# Altium schematic symbol library Holberton_V1.SCHLIB: 125 symbols (part 1 of 2)
Pins are listed as number, name and electrical type; pins without a type are passive.

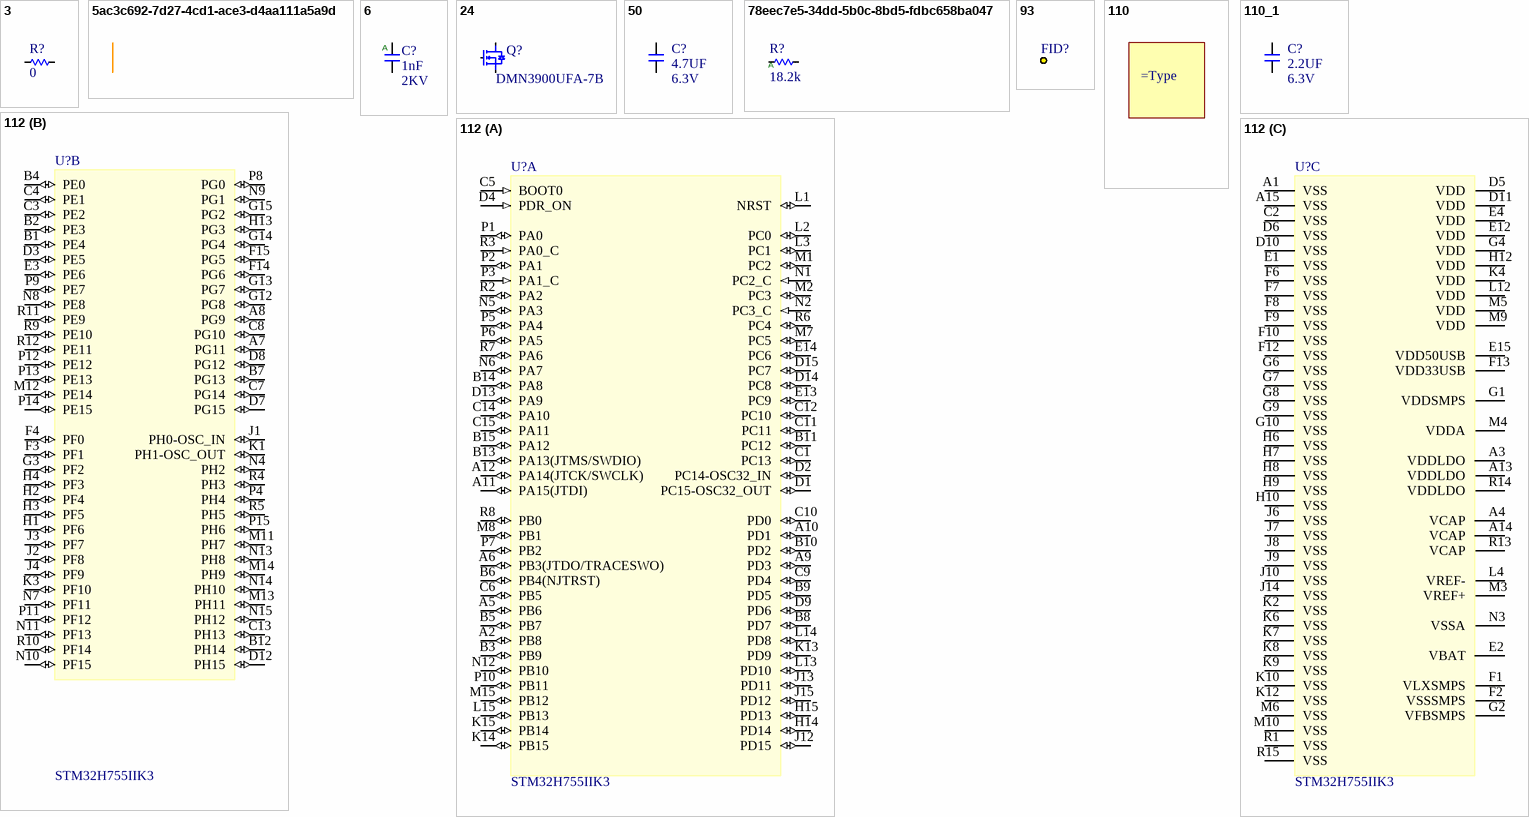
[diagram p0: symbols 3 to 112]

## 3
designator R?, comment 0
RES, 0, JUMPER, 1/16W, 0402; MFG: YAGEO; MFG P/N: RC0402FR-070RL; COMMON: 470-02332-00; Status: NRND; Package: 0402; Value: 0; Supplier 1: Digi-Key; ComponentLink1URL: https://www.digikey.com/en/products/detail/yageo/RC0402FR-070RL/2827570; Supplier Part Number 1: 311-0.0LRCT-ND
footprint R0603 (Chip Resistor, 2-Leads, Body 1.6x0.8mm, IPC High Density)
footprint R0402
pins: 1, 2

## 5ac3c692-7d27-4cd1-ace3-d4aa111a5a9d
designator NT?, comment Mechanical Feature NET_TIE_10MIL  (value not drawn)  (net tie, no BOM)
Net Tie, 10mil trace; Package: Net Tie, 10mil trace; Status: Preliminary
footprint NETTIE_10MIL (Net Tie 10 mils x 50 mils)
pins: 1, 2

## 6
designator C?, comment value 1nF  Voltage: 2KV  (hidden comment: __Template_Cap_Auto)
CAP, CER, X7S, 1000PF, 2KV, 10%, 1210; MFG: TDK; MFG P/N: CGA6M1X7S3D102K200AA; COMMON: 150-01098-00; Status: Released; Package: 1210; Supplier 1: Digi-Key; ComponentLink1URL: https://www.digikey.com/en/products/detail/tdk-corporation/CGA6M1X7S3D102K200AA/3950274; Supplier Part Number 1: 445-13038-1-ND
footprint C1210
pins: 1, 2
text: A

## 24
designator Q?, comment MFG P/N: DMN3900UFA-7B  (hidden comment: NFET_DMN3900UFA)
MOSFET, N-CH, 30V, 0.55A, DMN3900; MFG: Diodes Incorporated; COMMON: 480-00750-00; Value: DMN3900UFA-7B; Status: Released; Package: 3-XFDFN; ComponentLink1URL: http://www.diodes.com/datasheets/DMN3900UFA.pdf; Supplier 1: Digi-Key; Supplier Part Number 1: DMN3900UFA-7BCT-ND
footprint 3XDFN (DFN, 3-Leads, Body 0.80x0.60mm, Pitch 0.65mm, IPC Medium Density)
pins: 1 G, 2 S, 3 D

## 50
designator C?, comment value 4.7UF  Voltage: 6.3V  (hidden comment: __Template_Cap)
CAP, CER, X5R, 4.7uF, 20%, 6.3V, 0402, 0.65mm; MFG: TDK; MFG P/N: C1005X5R0J475M050BC; COMMON: 150-00023-00; Status: Released; Package: 0402; Supplier 1: Digi-Key; ComponentLink1URL: https://www.digikey.com/en/products/detail/tdk-corporation/C1005X5R0J475M050BC/2732830; Supplier Part Number 1: 445-7395-1-ND
footprint C0402 (Chip Capacitor, 2-Leads, Body 1.0x0.5mm, IPC High Density)
pins: 1, 2

## 78eec7e5-34dd-5b0c-8bd5-fdbc658ba047
designator R?, comment value 18.2k  (hidden comment: PANASONIC ERJ2RKF1822X)
Res, 18.2k, +/-1%, 0.1W, 0402, AUTO GRADE; MFG: Panasonic Electronic Components; MFG P/N: ERJ-2RKF1822X; Package: 0402; ComponentLink1URL: http://industrial.panasonic.com/cdbs/www-data/pdf/RDA0000/AOA0000C304.pdf; Status: Preliminary; Supplier 1: Digi-Key; Supplier Part Number 1: P18.2KLCT-ND
footprint RESC100X50X40L25 (Chip Resistor, 2-Leads, Body 1.00x0.50mm, IPC Medium Density)
footprint R0402
pins: 1, 2
text: A

## 93
designator FID?, comment FIDUCIAL  (value not drawn)  (no BOM)
FIDUCIAL 1MM COPPER CIRCLE 3MM MASK PULLBACK; MFG: _PCB Feature; Status: In Development; Value: FIDUCIAL
footprint FIDUCIAL_1MM (FIDUCIAL 1MM COPPER CIRCLE 3MM MASK PULLBACK)

## 110
designator ?  (mechanical)
PCB; Status: In Development; MFG P/N: =PCBPN

## 110_1
designator C?, comment value 2.2UF  Voltage: 6.3V  (hidden comment: __Template_Cap)
CAP, CER, X5R, 2.2uF, 6.3V, 20%, 0201, 0.39mm T; MFG: SAMSUNG; MFG P/N: CL03A225MQ3CRNC; COMMON: 150-00421-00; Status: Released; Package: 0201; Supplier 1: Digi-Key; ComponentLink1URL: https://www.digikey.com/en/products/detail/samsung-electro-mechanics/CL03A225MQ3CRNC/5961354; Supplier Part Number 1: 1276-6870-1-ND
footprint C0201 (Chip Capacitor, 2-Leads, Body 0.6x0.3mm, IPC High Density)
pins: 1, 2

## 112
designator U?, comment MFG P/N: STM32H755IIK3  (hidden comment: MCU_STM32H755IIK3)
IC, MCU, STM32H755xI, ARM, 32-BIT, 240MHZ, 128 I/O, 2MB, FLASH, 1.62V TO 3.6V, UFBGA-201; MFG: STMicroelectronics; Value: BGS201C65P15X15_1000X1000X60; Status: Released; Package: 176+25UFBGA (10x10); Supplier 1: Digi-Key; ComponentLink1URL: https://www.st.com/resource/en/datasheet/stm32h755ii.pdf; Supplier Part Number 1: 497-STM32H755IIK3-ND
footprint BGS201C65P15X15_1000X1000X60
part A pins: A2 PB8 (io), A5 PB6 (io), A6 PB3(JTDO/TRACESWO) (io), A9 PD3 (io), A10 PD1 (io), A11 PA15(JTDI) (io), A12 PA14(JTCK/SWCLK) (io), B3 PB9 (io), B5 PB7 (io), B6 PB4(NJTRST) (io), B8 PD7 (io), B9 PD5 (io), B10 PD2 (io), B11 PC12 (io), B13 PA13(JTMS/SWDIO) (io), B14 PA8 (io), B15 PA12 (io), C1 PC13 (io), C5 BOOT0 (in), C6 PB5 (io), C9 PD4 (io), C10 PD0 (io), C11 PC11 (io), C12 PC10 (io), C14 PA10 (io), C15 PA11 (io), D1 PC15-OSC32_OUT (io), D2 PC14-OSC32_IN (io), D4 PDR_ON (in), D9 PD6 (io), D13 PA9 (io), D14 PC8 (io), D15 PC7 (io), E13 PC9 (io), E14 PC6 (io), H14 PD14 (io), H15 PD13 (io), J12 PD15 (io), J13 PD11 (io), J15 PD12 (io), K13 PD9 (io), K14 PB15 (io), K15 PB14 (io), L1 NRST (io), L2 PC0 (io), L3 PC1 (io), L13 PD10 (io), L14 PD8 (io), L15 PB13 (io), M1 PC2 (io), M2 PC3 (io), M7 PC5 (io), M8 PB1 (io), M15 PB12 (io), N1 PC2_C (in), N2 PC3_C (in), N5 PA3 (io), N6 PA7 (io), N12 PB10 (io), P1 PA0 (io), P2 PA1 (io), P3 PA1_C (in), P5 PA4 (io), P6 PA5 (io), P7 PB2 (io), P10 PB11 (io), R2 PA2 (io), R3 PA0_C (in), R6 PC4 (io), R7 PA6 (io), R8 PB0 (io)
part B pins: A7 PG11 (io), A8 PG9 (io), B1 PE4 (io), B2 PE3 (io), B4 PE0 (io), B7 PG13 (io), B12 PH14 (io), C3 PE2 (io), C4 PE1 (io), C7 PG14 (io), C8 PG10 (io), C13 PH13 (io), D3 PE5 (io), D7 PG15 (io), D8 PG12 (io), D12 PH15 (io), E3 PE6 (io), F3 PF1 (io), F4 PF0 (io), F14 PG6 (io), F15 PG5 (io), G3 PF2 (io), G12 PG8 (io), G13 PG7 (io), G14 PG4 (io), G15 PG2 (io), H1 PF6 (io), H2 PF4 (io), H3 PF5 (io), H4 PF3 (io), H13 PG3 (io), J1 PH0-OSC_IN (io), J2 PF8 (io), J3 PF7 (io), J4 PF9 (io), K1 PH1-OSC_OUT (io), K3 PF10 (io), M11 PH7 (io), M12 PE14 (io), M13 PH11 (io), M14 PH9 (io), N4 PH2 (io), N7 PF11 (io), N8 PE8 (io), N9 PG1 (io), N10 PF15 (io), N11 PF13 (io), N13 PH8 (io), N14 PH10 (io), N15 PH12 (io), P4 PH4 (io), P8 PG0 (io), P9 PE7 (io), P11 PF12 (io), P12 PE12 (io), P13 PE13 (io), P14 PE15 (io), P15 PH6 (io), R4 PH3 (io), R5 PH5 (io), R9 PE10 (io), R10 PF14 (io), R11 PE9 (io), R12 PE11 (io)
part C pins: A1 VSS (power), A3 VDDLDO (power), A4 VCAP (power), A13 VDDLDO (power), A14 VCAP (power), A15 VSS (power), C2 VSS (power), D5 VDD (power), D6 VSS (power), D10 VSS (power), D11 VDD (power), E1 VSS (power), E2 VBAT (power), E4 VDD (power), E12 VDD (power), E15 VDD50USB (power), F1 VLXSMPS (power), F2 VSSSMPS (power), F6 VSS (power), F7 VSS (power), F8 VSS (power), F9 VSS (power), F10 VSS (power), F12 VSS (power), F13 VDD33USB (power), G1 VDDSMPS (power), G2 VFBSMPS (power), G4 VDD (power), G6 VSS (power), G7 VSS (power), G8 VSS (power), G9 VSS (power), G10 VSS (power), H6 VSS (power), H7 VSS (power), H8 VSS (power), H9 VSS (power), H10 VSS (power), H12 VDD (power), J6 VSS (power), J7 VSS (power), J8 VSS (power), J9 VSS (power), J10 VSS (power), J14 VSS (power), K2 VSS (power), K4 VDD (power), K6 VSS (power), K7 VSS (power), K8 VSS (power), K9 VSS (power), K10 VSS (power), K12 VSS (power), L4 VREF- (power), L12 VDD (power), M3 VREF+ (power), M4 VDDA (power), M5 VDD (power), M6 VSS (power), M9 VDD (power), M10 VSS (power), N3 VSSA (power), R1 VSS (power), R13 VCAP (power), R14 VDDLDO (power), R15 VSS (power)

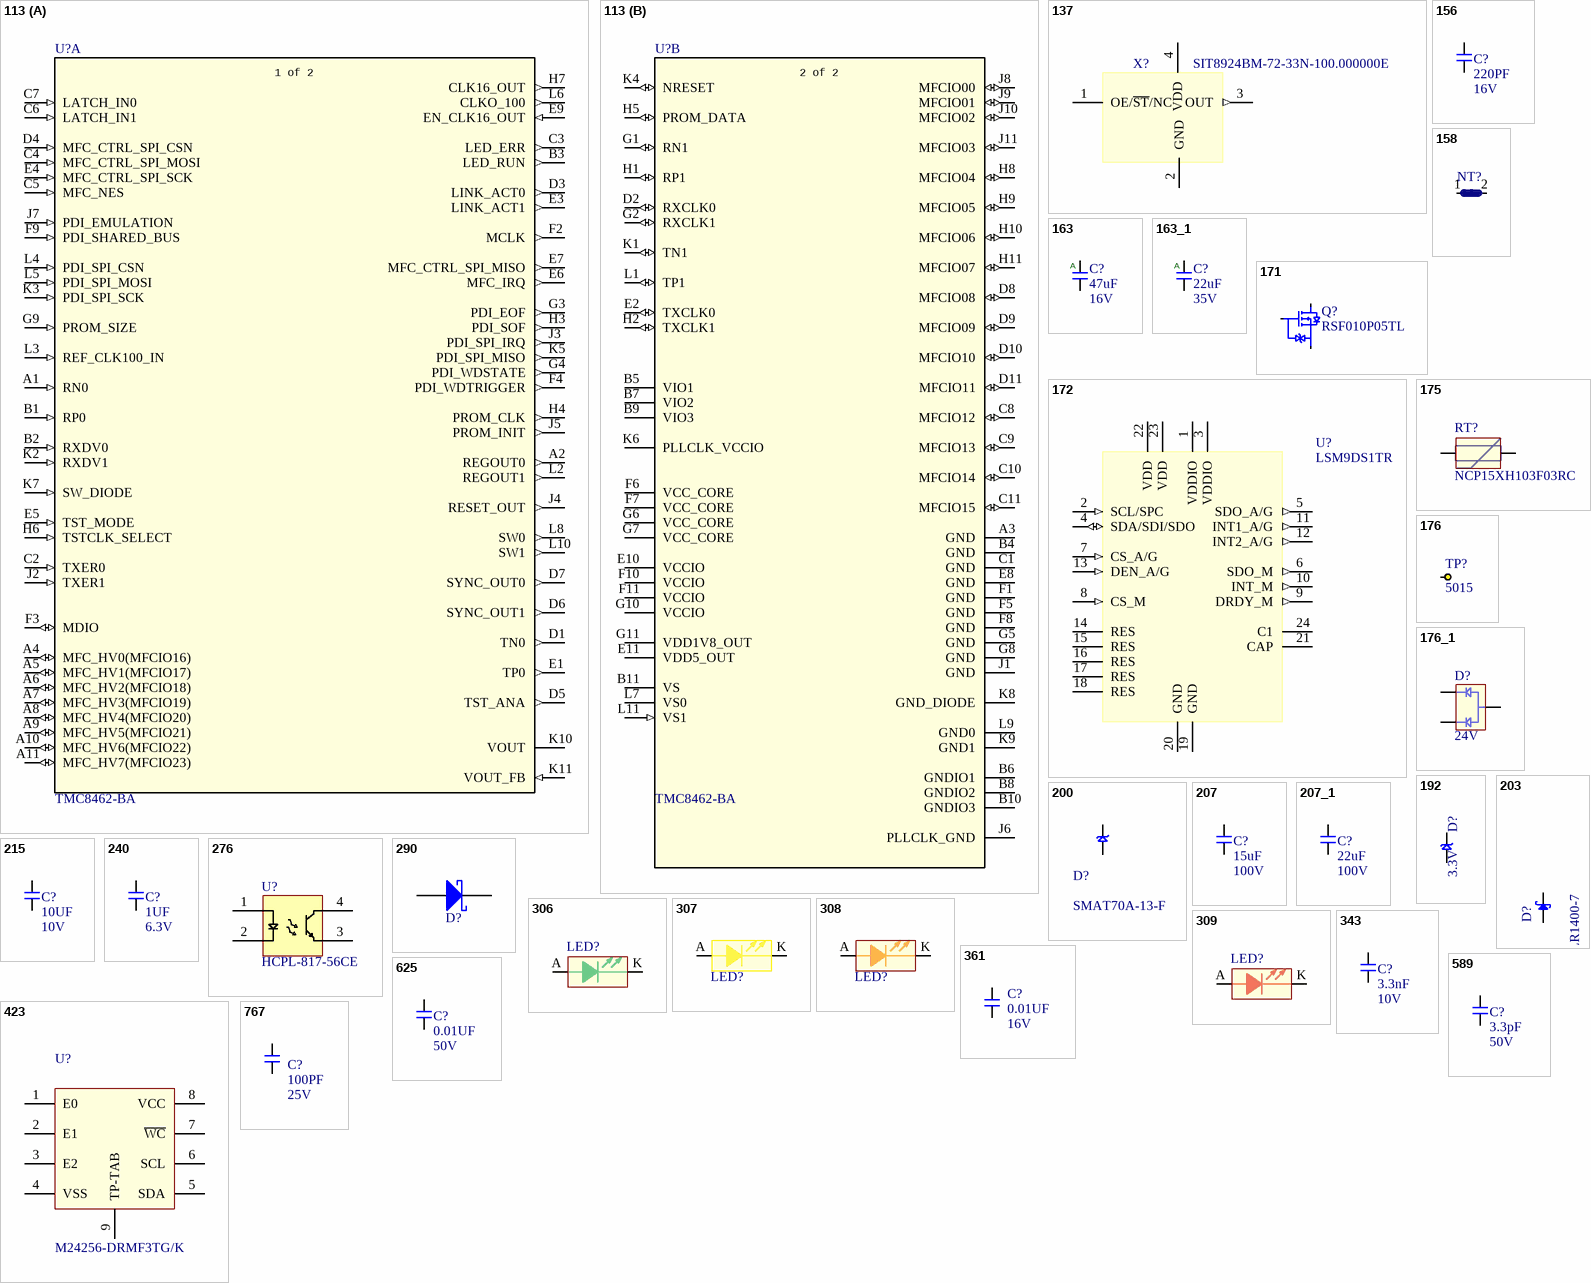
[diagram p1: symbols 113 to 767]

## 113
designator U?, comment MFG P/N: TMC8462-BA  (hidden comment: PROCESSOR_TRINAMIC_TMC8462-BA)
IC, CONTROLLER, TMC8462, ETHERNET, 100Mb, SPI, PWM O/P, 100mA, BGA-121; MFG: Trinamic Motion Control GmbH; Status: Released; Package: 121-BGA (9x9); Supplier 1: Digi-Key; ComponentLink1URL: https://www.trinamic.com/products/integrated-circuits/details/tmc8462-ba/; Supplier Part Number 1: 1460-1258-ND; Value: TMC8462-BA
footprint BGA121C75P11X11_900X900X145
part A pins: A1 RN0 (in), A2 REGOUT0 (out), A4 MFC_HV0(MFCIO16) (io), A5 MFC_HV1(MFCIO17) (io), A6 MFC_HV2(MFCIO18) (io), A7 MFC_HV3(MFCIO19) (io), A8 MFC_HV4(MFCIO20) (io), A9 MFC_HV5(MFCIO21) (io), A10 MFC_HV6(MFCIO22) (io), A11 MFC_HV7(MFCIO23) (io), B1 RP0 (in), B2 RXDV0 (in), B3 LED_RUN (out), C2 TXER0 (in), C3 LED_ERR (out), C4 MFC_CTRL_SPI_MOSI (in), C5 MFC_NES (in), C6 LATCH_IN1 (in), C7 LATCH_IN0 (in), D1 TN0 (out), D3 LINK_ACT0 (out), D4 MFC_CTRL_SPI_CSN (in), D5 TST_ANA (out), D6 SYNC_OUT1 (out), D7 SYNC_OUT0 (out), E1 TP0 (out), E3 LINK_ACT1 (out), E4 MFC_CTRL_SPI_SCK (in), E5 TST_MODE (in), E6 MFC_IRQ (out), E7 MFC_CTRL_SPI_MISO (out), E9 EN_CLK16_OUT (in), F2 MCLK (out), F3 MDIO (io), F4 PDI_WDTRIGGER (out), F9 PDI_SHARED_BUS (in), G3 PDI_EOF (out), G4 PDI_WDSTATE (out), G9 PROM_SIZE (in), H3 PDI_SOF (out), H4 PROM_CLK (out), H6 TSTCLK_SELECT (in), H7 CLK16_OUT (out), J2 TXER1 (in), J3 PDI_SPI_IRQ (out), J4 RESET_OUT (out), J5 PROM_INIT (out), J7 PDI_EMULATION (in), K2 RXDV1 (in), K3 PDI_SPI_SCK (in), K5 PDI_SPI_MISO (out), K7 SW_DIODE (in), K10 VOUT (power), K11 VOUT_FB (in), L2 REGOUT1 (out), L3 REF_CLK100_IN (in), L4 PDI_SPI_CSN (in), L5 PDI_SPI_MOSI (in), L6 CLKO_100 (out), L8 SW0 (out), L10 SW1 (out)
part B pins: A3 GND (power), B4 GND (power), B5 VIO1 (power), B6 GNDIO1 (power), B7 VIO2 (power), B8 GNDIO2 (power), B9 VIO3 (power), B10 GNDIO3 (power), B11 VS (power), C1 GND (power), C8 MFCIO12 (io), C9 MFCIO13 (io), C10 MFCIO14 (io), C11 MFCIO15 (io), D2 RXCLK0 (io), D8 MFCIO08 (io), D9 MFCIO09 (io), D10 MFCIO10 (io), D11 MFCIO11 (io), E2 TXCLK0 (io), E8 GND (power), E10 VCCIO (power), E11 VDD5_OUT (power), F1 GND (power), F5 GND (power), F6 VCC_CORE (power), F7 VCC_CORE (power), F8 GND (power), F10 VCCIO (power), F11 VCCIO (power), G1 RN1 (io), G2 RXCLK1 (io), G5 GND (power), G6 VCC_CORE (power), G7 VCC_CORE (power), G8 GND (power), G10 VCCIO (power), G11 VDD1V8_OUT (power), H1 RP1 (io), H2 TXCLK1 (io), H5 PROM_DATA (io), H8 MFCIO04 (io), H9 MFCIO05 (io), H10 MFCIO06 (io), H11 MFCIO07 (io), J1 GND (power), J6 PLLCLK_GND (power), J8 MFCIO00 (io), J9 MFCIO01 (io), J10 MFCIO02 (io), J11 MFCIO03 (io), K1 TN1 (io), K4 NRESET (io), K6 PLLCLK_VCCIO (power), K8 GND_DIODE (power), K9 GND1 (power), L1 TP1 (io), L7 VS0 (power), L9 GND0 (power), L11 VS1 (in)
part A text: 1 of 2
part B text: 2 of 2

## 137
designator X?, comment Mfg P/N: SIT8924BM-72-33N-100.000000E  (hidden comment: XTAL_SIT8924BM-72-33N-100.000000)
OSC, MEMS, XO, 100MHZ, +/-25PPM STAB, LVCMOS, 3.3V, SMD-4, AUTOGRADE; Mfg: SiTIME; Status: Released; Package: 4-SMD, No Lead; Supplier 1: Digi-Key; ComponentLink1URL: https://source.z2data.com/2019/9/26/1/9/50/497/69995916/SiT8924.pdf; Supplier Part Number 1: 1473-SIT8924BM-72-33N-100.000000E-ND; Value: 100MHZ
footprint XTAL_SIT8924BM-72-33N-100.000000
pins: 1 OE/~{ST}/NC, 2 GND (power), 3 OUT (out), 4 VDD (power)

## 156
designator C?, comment value 220PF  Voltage: 16V  (hidden comment: __Template_Cap)
CAP, CER, X7R, 220pF, 16V, 10%, 0201, 0.33mm T; MFG: MURATA; MFG P/N: GRM033R71C221KA01D; COMMON: 150-00794-00; Status: Released; Package: 0201; Supplier 1: Digi-Key; ComponentLink1URL: https://www.digikey.com/en/products/detail/murata-electronics/GRM033R71C221KA01D/2543508; Supplier Part Number 1: 490-6149-1-ND
footprint C0201Y
footprint C0201
pins: 1, 2

## 158
designator NT?, comment _Template_NETTIE  (value not drawn)  (net tie, no BOM)
Net Ties, 0402; MFG: _PCB Feature; Status: Released
footprint NETTIE_0402
pins: 1, 2

## 163
designator C?, comment value 47uF  Voltage: 16V  (hidden comment: __Template_Cap_Auto)
CAP, CER, X7R, 47uF, 16V, 20%, AUTO GRADE, 2220, 2.5mm T; MFG: TDK; MFG P/N: CGA9N3X7R1C476M230KB; COMMON: 150-00499-00; Status: Released; Package: 2220; Supplier 1: Digi-Key; ComponentLink1URL: https://www.digikey.com/en/products/detail/tdk-corporation/CGA9N3X7R1C476M230KB/2781361; Supplier Part Number 1: 445-7935-1-ND
footprint C2220 (Chip Capacitor, 2-Leads, Body 5.7x5.0mm, IPC High Density)
pins: 1, 2
text: A

## 163_1
designator C?, comment Voltage: 35V  (hidden comment: 22uF)
CAP CER 22UF 35V X5R 1206; MFG: TDK Corporation; MFG P/N: C3216X5R1V226M160AC; Status: Released; Package: 1206; Value: 22uF; Supplier 1: Digi-Key; ComponentLink1URL: https://www.digikey.com/en/products/detail/tdk-corporation/C3216X5R1V226M160AC/2792261?s=N4IgTCBcDaIMIGYwEYBsANArAJWQNTDFQFk0AGAQThAF0BfIA; Supplier Part Number 1: 445-8045-1-ND
footprint C1206 (Footprint not found)
pins: 1, 2
text: A

## 171
designator Q?, comment MFG P/N: RSF010P05TL  (hidden comment: PFET_RSF010P05TL)
MOSFET, PWR, P-CH, 45VDS, 1A ID, 460mOhm@ 1A, SMD-3; MFG: Rohm Semiconductor; Status: Released; Package: TUMT3; ComponentLink1URL: https://d1d2qsbl8m0m72.cloudfront.net/en/products/databook/datasheet/discrete/transistor/mosfet/rsf010p05tl-e.pdf; Supplier 1: Digi-Key; Supplier Part Number 1: RSF010P05TLCT-ND; Value: RSF010P05TL
footprint TUMT3
pins: D, G, S

## 172
designator U?, comment Mfg P/N: LSM9DS1TR  (hidden comment: SENSOR_ST_LSM9DS1TR)
SENSOR, MOTION, IMU, ACCELEROMETER/GYROSCOPE/MAGNETOMETER, I2C, SPI, LGA-24; Mfg: STMicroelectronics; Status: Released; Package: 24-LGA; Supplier 1: Digi-Key; ComponentLink1URL: https://www.st.com/content/ccc/resource/technical/document/datasheet/1e/3f/2a/d6/25/eb/48/46/DM00103319.pdf/files/DM00103319.pdf/jcr:content/translations/en.DM00103319.pdf; Supplier Part Number 1: 497-14946-1-ND; Value: LSM9DS1TR
footprint LGA24RX8X4_350X100X102
pins: 1 VDDIO (power), 2 SCL/SPC (in), 3 VDDIO (power), 4 SDA/SDI/SDO (io), 5 SDO_A/G (out), 6 SDO_M (out), 7 CS_A/G (in), 8 CS_M (in), 9 DRDY_M (out), 10 INT_M (out), 11 INT1_A/G (out), 12 INT2_A/G (out), 13 DEN_A/G (in), 14 RES (power), 15 RES (power), 16 RES (power), 17 RES (power), 18 RES (power), 19 GND (power), 20 GND (power), 21 CAP, 22 VDD (power), 23 VDD (power), 24 C1

## 175
designator RT?, comment Mfg P/N: NCP15XH103F03RC  (hidden comment: __Template_Thermistor)
SENSOR, THERMISTOR, NTC, 10K, 1%, 3380K, 100mW, 0402; Mfg: Murata Electronics; Value: 10KOHM; Status: Released; Package: 0402; Supplier 1: Digi-Key; ComponentLink1URL: https://www.murata.com/en-us/api/pdfdownloadapi?cate=&partno=NCP15XH103F03RC; Supplier Part Number 1: 490-4801-1-ND
footprint R0402_H0.55MM
footprint R0402
pins: 1, 2

## 176
designator TP?, comment MFG P/N: 5015  (hidden comment: TP_KEYSTONE_5015)
PC TEST POINT MINIATURE SMT; MFG: Keystone Electronics; COMMON: 250-00207-00; Value: 5015; Status: In Development; Supplier 1: Digi-Key; ComponentLink1URL: http://mail.keyelco.com/ENG._DEPT/PDF%20CAT%20NO%20Drawings/5015.pdf; Supplier Part Number 1: 36-5015CT-ND
footprint TP_KEYSTONE_5015
pins: 1

## 176_1
designator D?, comment 24V
DIODE, TVS, UNIDIR, DUAL, 24VRWM, 26VBR, 41VCL, SOT-23-3; MFG: Infineon Technologies; MFG P/N: ESD24VS2UE6327HTSA1; Value: ESD24VS2UE6327HTSA1; Status: Released; Package: TO-236-3, SC-59, SOT-23-3; Supplier 1: Digi-Key; ComponentLink1URL: https://www.infineon.com/dgdl/Infineon-ESD24VS2U-DS-v01_01-en.pdf?fileId=db3a3043340fff53013413a2249d2ff3; Supplier Part Number 1: ESD24VS2UE6327HTSA1CT-ND
footprint 3SOT23 (SOT23, 3-Leads, Body 3.0x2.6mm (max), Pitch 1.01mm, IPC High Density)
pins: 1, 2, 3

## 192
designator D?, comment 3.3V
TVS, DIODE, UNIDIR, 3.3VRWM, 4.8VBR, 7.8VCL, SOD-923; MFG: ON Semiconductor; MFG P/N: ESD9R3.3ST5G; Value: ESD9R3.3ST5G; Status: Released; Package: SOD-923; Supplier 1: Digi-Key; ComponentLink1URL: http://www.onsemi.com/pub/Collateral/ESD9R3.3S-D.PDF; Supplier Part Number 1: ESD9R3.3ST5GOSCT-ND
footprint SOD1060X40
pins: A, K

## 200
designator D?, comment value SMAT70A-13-F  (hidden comment: __Template_Diode_TVS_A/K)
DIODE, TVS, UNI-DIR, 70VR, 100VCL, 400W, 140PF @1MHZ, SMA; MFG: Diodes Incorporated; Status: Released; MFG P/N: SMAT70A-13-F; Package: SMA; Supplier 1: Digi-Key; ComponentLink1URL: https://www.diodes.com/assets/Datasheets/ds30213.pdf; Supplier Part Number 1: SMAT70A-FDICT-ND
footprint SMA_B130-13-F
pins: A, K

## 203
designator D?, comment value DFLR1400-7  (hidden comment: __Template_Diode_Schottky_A/K)
DIODE, SCHOTTKY, 100V, 1A, POWERDI123; MFG: Diodes Incorporated; Status: Released; MFG P/N: DFLR1400-7; Package: POWERDI®123; Supplier 1: Digi-Key; ComponentLink1URL: https://www.digikey.com/en/products/detail/diodes-incorporated/DFLR1400-7/776775; Supplier Part Number 1: DFLR1400DICT-ND
footprint POWERDI123_DFLS1100-7
pins: A, K

## 207
designator C?, comment value 15uF  Voltage: 100V  (hidden comment: __Template_Cap)
CAP, CER, X7S, 15uF, 100V, 20%, 2220, 2.8mm T; MFG: TDK; MFG P/N: CKG57KX7S2A156M335JH; Status: Released; Package: 2220; Supplier 1: Mouser; ComponentLink1URL: https://www.mouser.com/ProductDetail/TDK/CKG57KX7S2A156M335JH?qs=xLDY6iXSiQZjzyWjP57ZVA%3D%3D; Supplier Part Number 1: 810-CKG57KX7S2A156MH
footprint C2220 (Chip Capacitor, 2-Leads, Body 5.7x5.0mm, IPC High Density)
pins: 1, 2

## 207_1
designator C?, comment value 22uF  Voltage: 100V  (hidden comment: __Template_Cap)
CAP CER 22UF 100V X7S SMD (6.00mm x 5.00mm x 5.5mm); MFG: TDK; MFG P/N: CKG57NX7S2A226M500JJ; Status: Released; Supplier 1: Digi-Key; ComponentLink1URL: https://www.mouser.com/ProductDetail/TDK/CKG57KX7S2A156M335JH?qs=xLDY6iXSiQZjzyWjP57ZVA%3D%3D; Supplier Part Number 1: 445-10513-1-ND
footprint CAP_CKG57NX7S2A226M500JJ (Footprint not found)
pins: 1, 2

## 215
designator C?, comment value 10UF  Voltage: 10V  (hidden comment: __Template_Cap)
CAP, CER, X5R, 10uF, 10V, 20%, 0402, 0.7mm T; MFG: SAMSUNG; MFG P/N: CL05A106MP5NUNC; COMMON: 150-00376-00; Status: Released; Package: 0402; Supplier 1: Digi-Key; ComponentLink1URL: https://www.digikey.com/en/products/detail/samsung-electro-mechanics/CL05A106MP5NUNC/3887108; Supplier Part Number 1: 1276-1450-1-ND
footprint C0402 (Chip Capacitor, 2-Leads, Body 1.0x0.5mm, IPC High Density)
pins: 1, 2

## 240
designator C?, comment value 1UF  Voltage: 6.3V  (hidden comment: __Template_Cap)
CAP, CER, X5R, 1uF, 6.3V, 20%, 0201, 0.33mm T; MFG: SAMSUNG; MFG P/N: CL03A105MQ3CSNC; COMMON: 150-00980-00; Status: Released; Package: 0201; Supplier 1: Digi-Key; ComponentLink1URL: https://www.digikey.com/en/products/detail/samsung-electro-mechanics/CL03A105MQ3CSNC/3886983; Supplier Part Number 1: 1276-1325-1-ND
footprint C0201 (Chip Capacitor, 2-Leads, Body 0.6x0.3mm, IPC High Density)
pins: 1, 2

## 276
designator U?, comment MFG P/N: HCPL-817-56CE  (hidden comment: OPTO_HCPL-817-56CE)
ISOLATOR, OPTOISOLATOR, PHOTO TRANSISTOR, 70V, 50mA, SMD-4; MFG: Broadcom Limited; Status: Released; Package: 4-SMD; Supplier 1: Digi-Key; ComponentLink1URL: https://docs.broadcom.com/doc/AV02-0265EN; Supplier Part Number 1: 516-3136-1-ND; Value: HCPL-817-56CE
footprint OPTO_HCPL-817-56CE
pins: 1 Anode, 2 Cathode, 3 Emitter, 4 Collector

## 290
designator D?, comment __Template_DIODE_SCHOTTKY  (value not drawn)
DIODE, SCHOTTKY, 30V VRRM, 1A IO, 12A SURGE, SOD-123; MFG: Diodes Incorporated; MFG P/N: B130LAW-7-F; Value: B130LAW-7-F; Status: Released; Package: SOD-123; Supplier 1: Digi-Key; ComponentLink1URL: https://www.diodes.com/assets/Datasheets/ds30308.pdf; Supplier Part Number 1: B130LAW-FDICT-ND
footprint SOD-123_H1.35MM
pins: A, K
1 alternate drawing of the same symbol

## 306
designator LED?, comment __Template_LED_GREEN_AK  (value not drawn)
LED, GREEN, 574nm, 2mA, CLEAR, 0402; MFG: Kingbright; MFG P/N: APHHS1005LCGCK; Value: APHHS1005LCGCK; Status: Released; Package: 0402; Supplier 1: Digi-Key; ComponentLink1URL: http://www.kingbrightusa.com/images/catalog/SPEC/APHHS1005LCGCK.pdf; Supplier Part Number 1: 754-2121-1-ND
footprint LED_APHHS1005LCGCK
pins: A, K

## 307
designator LED?, comment __Template_LED_YELLOW_AK  (value not drawn)
LED, YELLOW, 591NM, 10mA, CLEAR, 0201; MFG: Kingbright; MFG P/N: APG0603SYC-TT; Value: APG0603SYC-TT; Status: Released; Package: 0201; Supplier 1: Digi-Key; ComponentLink1URL: http://www.kingbrightusa.com/images/catalog/SPEC/APG0603SYC-TT.pdf; Supplier Part Number 1: 754-2025-1-ND
footprint LED_APG0603SYC-TT
pins: A, K

## 308
designator LED?, comment __Template_LED_ORANGE_AK  (value not drawn)
LED, ORANGE, 611NM, 10mA, CLEAR, 0201; MFG: Kingbright; MFG P/N: APG0603SEC-TT; Value: APG0603SEC-TT; Status: Released; Package: 0201; Supplier 1: Digi-Key; ComponentLink1URL: http://www.kingbrightusa.com/images/catalog/SPEC/APG0603SEC-TT.pdf; Supplier Part Number 1: 754-2027-1-ND
footprint LED_APG0603SYC-TT
pins: A, K

## 309
designator LED?, comment __Template_LED_RED_AK  (value not drawn)
LED, RED, 640NM, 2mA, CLEAR, 0402; MFG: Kingbright; MFG P/N: APHHS1005LSECK/J3-PF; Value: APHHS1005LSECK/J3-PF; Status: Released; Package: 0402; Supplier 1: Digi-Key; ComponentLink1URL: http://www.kingbrightusa.com/images/catalog/SPEC/APHHS1005LSECK-J3-PF.pdf; Supplier Part Number 1: 754-2123-1-ND
footprint LED_APHHS1005LCGCK
pins: A, K

## 343
designator C?, comment value 3.3nF  Voltage: 10V  (hidden comment: __Template_Cap)
CAP, CER, X5R, 3300pF, 10V, 10%, 0201, 0.33mm T; MFG: AVX; MFG P/N: 0201ZD332KAT2A; COMMON: 150-00555-00; Status: Released; Package: 0201; Supplier 1: Digi-Key; ComponentLink1URL: https://www.digikey.com/en/products/detail/kyocera-avx/0201ZD332KAT2A/563155; Supplier Part Number 1: 478-1045-1-ND
footprint C0201 (Chip Capacitor, 2-Leads, Body 0.6x0.3mm, IPC High Density)
pins: 1, 2

## 361
designator C?, comment value 0.01UF  Voltage: 16V  (hidden comment: __Template_Cap)
CAP, CER, X5R, 0.01uF, 16V, 10%, 0201, 0.33mm T; MFG: MURATA; MFG P/N: GRM033R61C103KA12D; COMMON: 150-00126-00; Status: Released; Package: 0201; Supplier 1: Digi-Key; ComponentLink1URL: https://www.digikey.com/en/products/detail/murata-electronics/GRM033R61C103KA12D/4213197; Supplier Part Number 1: 490-7223-1-ND
footprint C0201Y
footprint C0201
pins: 1, 2

## 423
designator U?, comment MFG P/N: M24256-DRMF3TG/K  (hidden comment: EEPROM_M24256-DRMF3TG/K)
IC, MEMORY, M24256, EEPROM, 256Kb, I2C, 1MHz, MLP-8, AUTOGRADE; MFG: STMicroelectronics; Status: Released; Package: 8-WFDFN; Supplier 1: Digi-Key; ComponentLink1URL: https://www.st.com/content/ccc/resource/technical/document/datasheet/a7/9b/dd/87/57/59/41/8c/DM00061669.pdf/files/DM00061669.pdf/jcr:content/translations/en.DM00061669.pdf; Supplier Part Number 1: 497-15355-6-ND; Value: M24256-DRMF3TG/K
footprint 8WFDFN300X200X80-8-TP
pins: 1 E0, 2 E1, 3 E2, 4 VSS, 5 SDA, 6 SCL, 7 ~{WC}, 8 VCC, 9 TP-TAB (power)

## 589
designator C?, comment value 3.3pF  Voltage: 50V  (hidden comment: __Template_Cap)
CAP, CER, NP0, 3.3pF, 50V, +/-0.25pF, 0201, 0.33mm T; MFG: MURATA; MFG P/N: GRM0335C1H3R3CA01D; COMMON: 150-00958-00; Status: Released; Package: 0201; Supplier 1: Digi-Key; ComponentLink1URL: https://www.digikey.com/en/products/detail/murata-electronics/GRM0335C1H3R3CA01D/2542225; Supplier Part Number 1: 490-6128-1-ND
footprint C0201Y
footprint C0201
pins: 1, 2

## 625
designator C?, comment value 0.01UF  Voltage: 50V  (hidden comment: __Template_Cap)
CAP, CER, X7R, 0.01uF, 50V, 20%, 0402, 0.56mm T; MFG: KEMET; MFG P/N: C0402C103M5RACTU; COMMON: 150-00227-00; Status: Released; Package: 0402; Supplier 1: Digi-Key; ComponentLink1URL: https://www.digikey.com/en/products/detail/kemet/C0402C103M5RAC7867/2196227; Supplier Part Number 1: 399-C0402C103M5RAC7867CT-ND
footprint C0402 (Chip Capacitor, 2-Leads, Body 1.0x0.5mm, IPC High Density)
pins: 1, 2

## 767
designator C?, comment value 100PF  Voltage: 25V  (hidden comment: __Template_Cap)
CAP, CER, X7R, 100pF, 25V, 10%, 0201, 0.33mm T; MFG: MURATA; MFG P/N: GRM033R71E101KA01D; COMMON: 150-00022-00; Status: Released; Package: 0201; Supplier 1: Digi-Key; ComponentLink1URL: https://www.digikey.com/en/products/detail/murata-electronics/GRM033R71E101KA01D/702438; Supplier Part Number 1: 490-3172-1-ND
footprint C0201Y
footprint C0201
pins: 1, 2

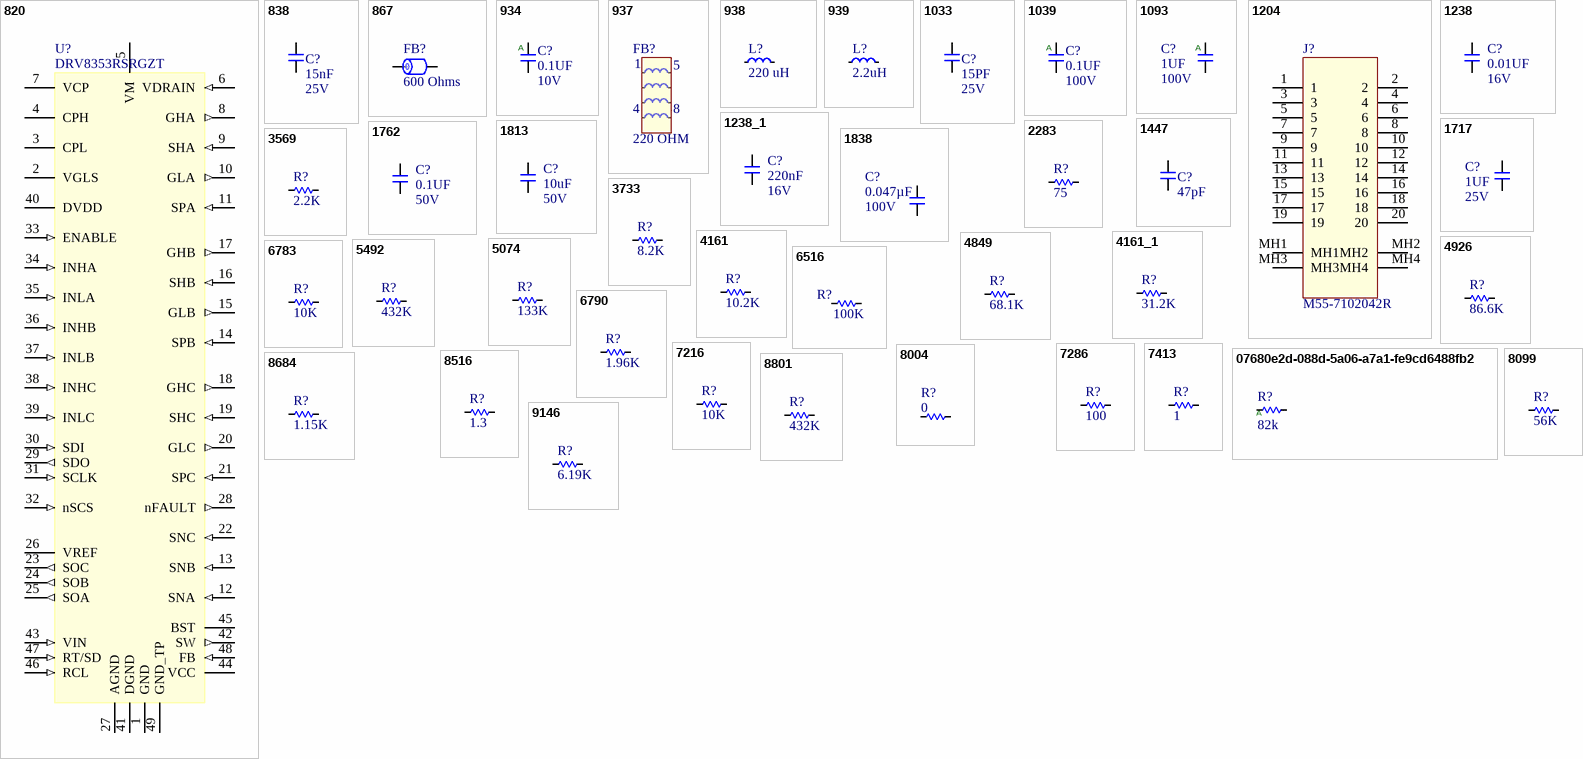
[diagram p2: symbols 820 to 9146]

## 820
designator U?, comment MFG P/N: DRV8353RSRGZT  (hidden comment: MOTOR_DRIVE_DRV8353RSRGZT)
IC, MOTOR DRIVER, DRV8353, MULTIPHASE, BLDC, HALF BRIDGE, POWER MOSFET, 6V TO 95V VIN, VQFN-48; MFG: Texas Instruments; Status: Released; Package: 48-VQFN (7x7); Supplier 1: Digi-Key; ComponentLink1URL: https://www.ti.com/lit/ds/symlink/drv8350.pdf?HQS=TI-null-null-digikeymode-df-pf-null-wwe&ts=1593096373926; Supplier Part Number 1: 296-50273-1-ND; Value: DRV8353RSRGZT
footprint VQFN50P700X700X100-48-TP_TP-CUST_NO_VIAS
pins: 1 GND (power), 2 VGLS (power), 3 CPL (power), 4 CPH (power), 5 VM (power), 6 VDRAIN (in), 7 VCP (power), 8 GHA (out), 9 SHA (in), 10 GLA (out), 11 SPA (in), 12 SNA (in), 13 SNB (in), 14 SPB (in), 15 GLB (out), 16 SHB (in), 17 GHB (out), 18 GHC (out), 19 SHC (in), 20 GLC (out), 21 SPC (in), 22 SNC (in), 23 SOC (out), 24 SOB (out), 25 SOA (out), 26 VREF (power), 27 AGND (power), 28 nFAULT (out), 29 SDO (out), 30 SDI (in), 31 SCLK (in), 32 nSCS (in), 33 ENABLE (in), 34 INHA (in), 35 INLA (in), 36 INHB (in), 37 INLB (in), 38 INHC (in), 39 INLC (in), 40 DVDD (power), 41 DGND (power), 42 SW (out), 43 VIN (in), 44 VCC (power), 45 BST (power), 46 RCL (in), 47 RT/SD (in), 48 FB (in), 49 GND_TP (power)

## 838
designator C?, comment value 15nF  Voltage: 25V  (hidden comment: __Template_Cap)
CAP, CER, X7R, 0.015uF, 25V, 10%, 0402, 0.56mm T; MFG: MURATA; MFG P/N: GRM155R71E153KA61D; COMMON: 150-00741-00; Status: NRND; Package: 0402; Supplier 1: Digi-Key; ComponentLink1URL: https://www.digikey.com/en/products/detail/murata-electronics/GRM155R71E153KA61D/702516; Supplier Part Number 1: 490-3251-1-ND
footprint C0402 (Chip Capacitor, 2-Leads, Body 1.0x0.5mm, IPC High Density)
pins: 1, 2

## 867
designator FB?, comment value 600 Ohms  (hidden comment: __Template_Ferrite_Bead)
FERRITE, BEAD, 600OHMS @100MHZ, 25%, 250mA, 900 mOHM DCR, 0201; MFG: Murata Electronics North America; MFG P/N: BLM03AX601SN1D; Status: Released; Package: 0201 (0603 Metric); Supplier 1: Digi-Key; ComponentLink1URL: https://www.murata.com/en-us/products/productdata/8796741140510/ENFA0020.pdf; Supplier Part Number 1: 490-5624-1-ND
footprint L0201_H0.33MM
pins: 1, 2

## 934
designator C?, comment value 0.1UF  Voltage: 10V  (hidden comment: __Template_Cap_Auto)
CAP, CER, X6S, 0.1uF, 10V, 10%, 0201, AUTOGRADE; MFG: MURATA; MFG P/N: GRT033C81A104KE01D; COMMON: 150-01178-00; Status: Released; Package: 0201; Supplier 1: Digi-key; ComponentLink1URL: https://search.murata.co.jp/Ceramy/image/img/A01X/G101/ENG/GRT033C81A104KE01-01.pdf; Supplier Part Number 1: 490-12232-1-ND
footprint C0201Y
footprint C0201
pins: 1, 2
text: A

## 937
designator FB?, comment value 220 OHM  (hidden comment: FB_ARRAY_BLA31AG221SN4D)
FERRITE, BEAD, 220 OHM, 150mA, DCR 0.25 MAX, 1206; MFG: Murata Electronics; Status: Released; MFG P/N: BLA31AG221SN4D; Package: 1206-Array; Supplier 1: Digi-Key; ComponentLink1URL: https://www.murata.com/en-us/products/productdata/8796743204894/ENFA0008.pdf; Supplier Part Number 1: 490-9700-1-ND
footprint FB_ARRAY_BLA31AG221SN4D
pins: 1, 2, 3, 4, 5, 6, 7, 8

## 938
designator L?, comment value 220 uH  (hidden comment: __Template_Inductor)
220 µH Semi-Shielded Drum Core, Wirewound Inductor 500 mA 1.4Ohm Nonstandard; MFG: Würth Elektronik; MFG P/N: 74404054221; Status: Released; Package: 2 - pin SMD; Supplier 1: Digi-Key; ComponentLink1URL: https://www.coilcraft.com/en-us/products/power/shielded-inductors/ferrite-drum/mss-mos/mss7348/#; Supplier Part Number 1: 732-11722-1-ND
footprint IND_74404054221 (Footprint not found)
pins: 1, 2

## 939
designator L?, comment value 2.2uH  (hidden comment: __Template_Inductor)
IND, WIREWOUND, SHIELDED, 2.2uH, 2.1A, 20%, DCR 0.11, SMD, AUTOGRADE; MFG: COILCRAFT; MFG P/N: LPS3015-222MR_; Status: Released; Package: 2 - pin SMD; Supplier 1: Digi-Key; ComponentLink1URL: https://www.coilcraft.com/getmedia/5d262731-85ef-4348-8ab4-1044b4fc3cb8/lps3015.pdf; Supplier Part Number 1: 2457-LPS3015-222MR_TR-ND
footprint IND_LPS3015-152MRB
pins: 1, 2

## 1033
designator C?, comment value 15PF  Voltage: 25V  (hidden comment: __Template_Cap)
CAP, CER, NP0, 15pF, 25V, 5%, 0201, 0.9mm T; MFG: TDK; MFG P/N: C0603C0G1E150J030BA; COMMON: 150-00968-00; Status: NRND; Package: 0201; Supplier 1: Digi-Key; ComponentLink1URL: https://www.digikey.com/en/products/detail/tdk-corporation/C0603C0G1E150J030BA/2050004; Supplier Part Number 1: 445-4655-1-ND
footprint C0201 (Chip Capacitor, 2-Leads, Body 0.6x0.3mm, IPC High Density)
pins: 1, 2

## 1039
designator C?, comment value 0.1UF  Voltage: 100V  (hidden comment: __Template_Cap_Auto)
CAP, CER, X7S, 0.1uF, 100V, 10%, 0603, AUTOGRADE; MFG: TDK; MFG P/N: CGA3E3X7S2A104K080AB; COMMON: 150-00222-00; Status: Released; Package: 0603; Supplier 1: Digi-Key; ComponentLink1URL: https://www.digikey.com/en/products/detail/tdk-corporation/CGA3E3X7S2A104K080AB/2672831; Supplier Part Number 1: 445-6938-1-ND
footprint C0603 (Chip Capacitor, 2-Leads, Body 1.6x0.8mm, IPC High Density)
pins: 1, 2
text: A

## 1093
designator C?, comment value 1UF  Voltage: 100V  (hidden comment: __Template_Cap_Auto)
CAP, CER, X7S, 1uF, 20%, 100V, 0805; MFG: TDK; MFG P/N: CGA4J3X7S2A105M125AE; COMMON: 150-01093-00; Status: Released; Package: 0805; Supplier 1: Digi-Key; ComponentLink1URL: https://www.digikey.com/en/products/detail/tdk-corporation/CGA4J3X7S2A105M125AE/2782484; Supplier Part Number 1: 445-7961-1-ND
footprint C0805 (Chip Capacitor, 2-Leads, Body 2.0x1.3mm, IPC High Density)
pins: 1, 2
text: A

## 1204
designator J?, comment M55-7102042R
CONN HEADER SMD R/A 20POS 1.27MM; MFG: Harwin Inc.; Status: Released; MFG P/N: M55-7102042R; Supplier 1: Digi-Key; ComponentLink1URL: https://www.digikey.com/en/products/detail/harwin-inc/M55-7102042R/8537613?s=N4IgTCBcDaILIFYEFoDsBGADGTAWMASiALoC%2BQA; Supplier Part Number 1: 952-3893-1-ND; Value: M55-7102042R
footprint CON_M55-7102042R (Footprint not found)
pins: 1, 2, 3, 4, 5, 6, 7, 8, 9, 10, 11, 12, 13, 14, 15, 16, 17, 18, 19, 20, MH1, MH2, MH3, MH4

## 1238
designator C?, comment value 0.01UF  Voltage: 16V  (hidden comment: __Template_Cap)
CAP, CER, X5R, 0.01uF, 16V, 10%, 0201, 0.33mm T; MFG: MURATA; MFG P/N: GRM033R61C103KA12D; COMMON: 150-00126-00; Status: Released; Package: 0201; Supplier 1: Digi-Key; ComponentLink1URL: https://www.digikey.com/en/products/detail/murata-electronics/GRM033R61C103KA12D/4213197; Supplier Part Number 1: 490-7223-1-ND
footprint C0201Y
footprint C0201
pins: 1, 2

## 1238_1
designator C?, comment value 220nF  Voltage: 16V  (hidden comment: __Template_Cap)
CAP CER 0402 220NF 16VDC X7R; MFG: KEMET; MFG P/N: C0402C224M4RAC7867; Status: Released; Package: 0402; Supplier 1: Digi-Key; ComponentLink1URL: https://www.digikey.com/en/products/detail/murata-electronics/GRM033R61C103KA12D/4213197; Supplier Part Number 1: 399-C0402C224M4RAC7867CT-ND
footprint C0201Y
footprint C0402 (Chip Capacitor, 2-Leads, Body 1.0x0.5mm, IPC High Density)
pins: 1, 2

## 1447
designator C?, comment value 47pF  (hidden comment: __Template_Cap)
CAP, CER, C0G, 47PF, 5%, 50V, 0402; MFG: TDK; MFG P/N: C1005C0G1H470J050BA; COMMON: 150-00181-00; Status: NRND; Package: 0402; Voltage: 50V; Supplier 1: Digi-Key; ComponentLink1URL: https://www.digikey.com/en/products/detail/tdk-corporation/C1005C0G1H470J050BA/513693; Supplier Part Number 1: 445-1243-1-ND
footprint C0402 (Chip Capacitor, 2-Leads, Body 1.0x0.5mm, IPC High Density)
pins: 1, 2

## 1717
designator C?, comment value 1UF  Voltage: 25V  (hidden comment: __Template_Cap)
CAP, CER, X5R, 1uF, 10%, 25V, 0402; MFG: TDK; MFG P/N: C1005X5R1E105K050BC; COMMON: 150-01202-00; Status: Released; Package: 0402; Supplier 1: Digi-Key; ComponentLink1URL: https://product.tdk.com/info/en/catalog/datasheets/mlcc_commercial_general_en.pdf; Supplier Part Number 1: 445-9066-1-ND
footprint C0402 (Chip Capacitor, 2-Leads, Body 1.0x0.5mm, IPC High Density)
pins: 1, 2

## 1762
designator C?, comment value 0.1UF  Voltage: 50V  (hidden comment: __Template_Cap)
CAP, CER, X5R, 0.1uF, 10%, 50V, 0402, 0.55mm; MFG: YAGEO; MFG P/N: CC0402KRX5R9BB104; Status: Released; Package: 0402; Supplier 1: Digi-Key; ComponentLink1URL: http://www.yageo.com/documents/recent/UPY-GPHC_X5R_4V-to-50V_25.pdf; Supplier Part Number 1: 311-3342-1-ND
footprint C0402 (Chip Capacitor, 2-Leads, Body 1.0x0.5mm, IPC High Density)
pins: 1, 2

## 1813
designator C?, comment value 10uF  Voltage: 50V  (hidden comment: __Template_Cap)
CAP, CER, X5R, 10uF, 50V, 20%, 1210; MFG: TAIYO YUDEN; MFG P/N: UMK325BJ106MM-T; Status: Released; Package: 1210; Supplier 1: Digi-Key; ComponentLink1URL: https://media.digikey.com/pdf/Data%20Sheets/Taiyo%20Yuden%20PDFs%20URL%20links/UMK325BJ106MM-T_Spec.pdf; Supplier Part Number 1: 587-2225-1-ND
footprint C1210_H2.7mm
footprint C1210
pins: 1, 2

## 1838
designator C?, comment value 0.047µF  Voltage: 100V  (hidden comment: __Template_Cap)
CAP, CER, X7R, 0.047uF, 100V, 10%, 0603, AUTOGRADE; MFG: Samsung Electro-Mechanics; MFG P/N: CL10B473KC8WPNC; Status: Released; Package: 0603; Supplier 1: Mouser; ComponentLink1URL: https://www.mouser.com/ProductDetail/Samsung-Electro-Mechanics/CL10B473KC8WPNC?qs=xZ%2FP%252Ba9zWqZHK%252B26%2FNJNOA%3D%3D; Supplier Part Number 1: 87-CL10B473KC8WPNC
footprint C0603Y
footprint C0603
pins: 1, 2

## 2283
designator R?, comment 75
RES, 75, 1%, 1/16W, 0402; MFG: YAGEO; MFG P/N: RC0402FR-0775RL; COMMON: 470-00607-00; Status: Released; Package: 0402; Value: 75; Supplier 1: Digi-Key; ComponentLink1URL: https://www.digikey.com/en/products/detail/yageo/RC0402FR-0775RL/726658; Supplier Part Number 1: 311-75.0LRCT-ND
footprint R0402
pins: 1, 2

## 3569
designator R?, comment 2.2K
Resistor, 2.20K Ohms, 0201, 0.05W, ±1%; MFG: PANASONIC; MFG P/N: ERJ-1GNF2201C; Status: Released; Package: 0201; Value: 2.2K; Supplier 1: Digi-Key; ComponentLink1URL: https://www.digikey.com/en/products/detail/panasonic-electronic-components/ERJ-1GNF2201C/8342603; Supplier Part Number 1: P122832CT-ND
footprint R0201 (Chip Resistor, 2-Leads, Body 0.6x0.3mm, IPC High Density)
pins: 1, 2

## 3733
designator R?, comment 8.2K
RES 8.2K OHM 1% 1/4W 1206; MFG: STACKPOLE ELECTRONICS; MFG P/N: RMCF1206FT8K20; Status: Released; Package: 1206; Value: 8.2K; Supplier 1: Digi-Key; ComponentLink1URL: https://www.digikey.com/en/products/detail/stackpole-electronics-inc/RMCF1206FT3K30/1753917; Supplier Part Number 1: RMCF1206FT8K20CT-ND
footprint R1206 (Chip Resistor, 2-Leads, Body 3.1x1.6mm, IPC High Density)
pins: 1, 2

## 4161
designator R?, comment 10.2K
Resistor, 10.2K Ohms, 0201, 0.05W, ±1%; MFG: YAGEO; MFG P/N: RC0201FR-0710K2L; COMMON: 470-07513-00; Status: Released; Package: 0201; Value: 10.2K; Supplier 1: Digi-Key; ComponentLink1URL: https://www.digikey.com/en/products/detail/yageo/RC0201FR-0710K2L/1948867; Supplier Part Number 1: 311-10.2KMCT-ND
footprint R0201 (Chip Resistor, 2-Leads, Body 0.6x0.3mm, IPC High Density)
pins: 1, 2

## 4161_1
designator R?, comment 31.2K
RES 31.2K OHM 1% 1/16W 0402; MFG: KOA Speer Electronics, Inc.; MFG P/N: RN73H1ETTP3122F25; Status: Released; Package: 0402; Value: 31.2K; Supplier 1: Digi-Key; ComponentLink1URL: https://www.digikey.com/en/products/detail/yageo/RC0201FR-0710K2L/1948867; Supplier Part Number 1: 2019-RN73H1ETTP3122F25CT-ND
footprint R0402
pins: 1, 2

## 4849
designator R?, comment 68.1K
RES, 68.1K, 1%, 1/16W, 0402; MFG: Stackpole Electronics Inc; MFG P/N: RMCF0402FT68K1; Status: Released; Package: 0402; Value: 68.1K; Supplier 1: Digi-Key; ComponentLink1URL: https://www.digikey.com/en/products/detail/stackpole-electronics-inc/RMCF0402FT68K1/1761637; Supplier Part Number 1: RMCF0402FT68K1CT-ND
footprint R0402
pins: 1, 2

## 4926
designator R?, comment 86.6K
Resistor, 86.6K Ohms, 0201, 0.05W, ±1%; MFG: PANASONIC; MFG P/N: ERJ-1GNF8662C; Status: Released; Package: 0201; Value: 86.6K; Supplier 1: Digi-Key; ComponentLink1URL: https://www.digikey.com/en/products/detail/panasonic-electronic-components/ERJ-1GNF8662C/8343311; Supplier Part Number 1: P123186CT-ND
footprint R0201 (Chip Resistor, 2-Leads, Body 0.6x0.3mm, IPC High Density)
pins: 1, 2

## 5074
designator R?, comment 133K
RES, 133K, 1%, 1/16W, 0402, AUTOGRADE; MFG: VISHAY; MFG P/N: CRCW0402133KFKED; COMMON: 470-02579-00; Status: Released; Package: 0402; Value: 133K; Supplier 1: Digi-Key; ComponentLink1URL: https://www.digikey.com/en/products/detail/vishay-dale/CRCW0402133KFKED/1178248; Supplier Part Number 1: 541-133KLCT-ND
footprint R0402
pins: 1, 2

## 5492
designator R?, comment 432K
RES, 432K, 1%, 1/16W, 0402; MFG: VISHAY; MFG P/N: CRCW0402432KFKED; Status: Released; Package: 0402; Value: 432K; Supplier 1: Digi-Key; ComponentLink1URL: http://www.vishay.com/docs/28773/crcwce3.pdf; Supplier Part Number 1: 541-432KLCT-ND
footprint R0805 (Chip Resistor, 2-Leads, Body 2.0x1.3mm, IPC High Density)
footprint R0402
pins: 1, 2

## 6516
designator R?, comment 100K
RES, 100K, 1%, 1/10W, 0603, AUTO GRADE; MFG: PANASONIC; MFG P/N: ERJ3EKF1003V; COMMON: 470-00120-00; Status: Released; Package: 0603; Value: 100K; Supplier 1: Digi-Key; ComponentLink1URL: https://www.digikey.com/en/products/detail/panasonic-electronic-components/ERJ-3EKF1003V/196075; Supplier Part Number 1: P100KHCT-ND
footprint R0603 (Chip Resistor, 2-Leads, Body 1.6x0.8mm, IPC High Density)
pins: 1, 2

## 6783
designator R?, comment value 10K  (hidden comment: __Template_Resistor)
RES, 10K, 1%, 1/20W, 0201, AUTOGRADE; MFG: PANASONIC; MFG P/N: ERJ1GNF1002C; COMMON: 470-00033-00; Status: Released; Package: 0201; Supplier 1: Digi-Key; ComponentLink1URL: https://industrial.panasonic.com/cdbs/www-data/pdf/RDA0000/AOA0000C304.pdf; Supplier Part Number 1: P122414CT-ND
footprint R0201_H0.26MM
footprint R0201
pins: 1, 2

## 6790
designator R?, comment 1.96K
RES, 1.96K, 1%, 1/20W, 0201; MFG: PANASONIC; MFG P/N: ERJ1GEF1961C; COMMON: 470-00892-00; Status: NRND; Package: 0201; Value: 1.96K; Supplier 1: Digi-Key; ComponentLink1URL: https://www.digikey.com/en/products/detail/panasonic-electronic-components/ERJ-1GEF1961C/1467048; Supplier Part Number 1: P1.96KABCT-ND
footprint R0201 (Chip Resistor, 2-Leads, Body 0.6x0.3mm, IPC High Density)
pins: 1, 2

## 7216
designator R?, comment 10K
RES, 10K, 1%, 1/10W, 0402, AUTOGRADE; MFG: PANASONIC; MFG P/N: ERJ2RKF1002X; COMMON: 470-00319-00; Status: Released; Package: 0402; Value: 10K; Supplier 1: Digi-Key; ComponentLink1URL: https://www.digikey.com/en/products/detail/panasonic-electronic-components/ERJ-2RKF1002X/192073; Supplier Part Number 1: P10.0KLCT-ND
footprint R0402
pins: 1, 2

## 7286
designator R?, comment 100
RES, 100, 1%, 1/10W, 0402, AUTO GRADE; MFG: PANASONIC; MFG P/N: ERJ2RKF1000X; COMMON: 470-00294-00; Status: Released; Package: 0402; Value: 100; Supplier 1: Digi-Key; ComponentLink1URL: https://www.digikey.com/en/products/detail/panasonic-electronic-components/ERJ-2RKF1000X/192080; Supplier Part Number 1: P100LCT-ND
footprint R0402
pins: 1, 2

## 7413
designator R?, comment 1
RES, 1.0, 5%, 1/20W, 0201; MFG: PANASONIC; MFG P/N: ERJ-1GNJ1R0C; Status: released; Package: 0201; Value: 1; Supplier 1: Digi-Key; ComponentLink1URL: https://www.digikey.com/en/products/detail/panasonic-electronic-components/ERJ-1GNJ1R0C/2035715; Supplier Part Number 1: P123262CT-ND
footprint R0201 (Chip Resistor, 2-Leads, Body 0.6x0.3mm, IPC High Density)
pins: 1, 2

## 07680e2d-088d-5a06-a7a1-fe9cd6488fb2
designator R?, comment value 82k  (hidden comment: PANASONIC ERJ2RKF8202X)
Res, 82k, +/-1%, 0.1W, 0402, AUTO GRADE; MFG: Panasonic Electronic Components; MFG P/N: ERJ-2RKF8202X; Package: 0402; ComponentLink1URL: http://industrial.panasonic.com/cdbs/www-data/pdf/RDA0000/AOA0000C304.pdf; Status: Preliminary; Supplier 1: Digi-Key; Supplier Part Number 1: P82.0KLCT-ND
footprint RESC100X50X40L25 (Chip Resistor, 2-Leads, Body 1.00x0.50mm, IPC Medium Density)
footprint R0402
pins: 1, 2
text: A

## 8004
designator R?, comment 0
RES, 0, JUMPER, 1/16W, 0402; MFG: YAGEO; MFG P/N: RC0402FR-070RL; COMMON: 470-02332-00; Status: Released; Package: 0402; Value: 0; Supplier 1: Digi-Key; ComponentLink1URL: https://www.digikey.com/en/products/detail/yageo/RC0402FR-070RL/2827570; Supplier Part Number 1: 311-0.0LRCT-ND
footprint R0402
pins: 1, 2

## 8099
designator R?, comment 56K
RES, 56K, 1%, 1/16W, 0402; MFG: VISHAY; MFG P/N: CRCW040256K0FKED; COMMON: 470-02723-00; Status: Released; Package: 0402; Value: 56K; Supplier 1: Digi-Key; ComponentLink1URL: https://www.digikey.com/en/products/detail/vishay-dale/CRCW040256K0FKED/1178206; Supplier Part Number 1: 541-56.0KLCT-ND
footprint R0402
pins: 1, 2

## 8516
designator R?, comment 1.3
RES, 1.3, 1%, 1/2W, AUTOGRADE, 0805; MFG: Panasonic Electronic Components; MFG P/N: ERJ-6DQF1R3V; Status: Released; Package: 0805; Value: 1.3; Supplier 1: Digi-Key; ComponentLink1URL: https://industrial.panasonic.com/cdbs/www-data/pdf/RDN0000/AOA0000C313.pdf; Supplier Part Number 1: P19271CT-ND
footprint R0805 (Chip Resistor, 2-Leads, Body 2.0x1.3mm, IPC High Density)
pins: 1, 2

## 8684
designator R?, comment 1.15K
RES, 1.15K, 1%, 1/16W, 0402; MFG: VISHAY; MFG P/N: CRCW04021K15FKED; Status: Released; Package: 0402; Value: 1.15K; Supplier 1: Digi-Key; ComponentLink1URL: http://www.vishay.com/docs/28773/crcwce3.pdf; Supplier Part Number 1: 541-1.15KLCT-ND
footprint R0402
pins: 1, 2

## 8801
designator R?, comment 432K
RES, 432K, 1%, 1/16W, 0402; MFG: VISHAY; MFG P/N: CRCW0402432KFKED; Status: Released; Package: 0402; Value: 432K; Supplier 1: Digi-Key; ComponentLink1URL: http://www.vishay.com/docs/28773/crcwce3.pdf; Supplier Part Number 1: 541-432KLCT-ND
footprint R0402
pins: 1, 2

## 9146
designator R?, comment 6.19K
RES, 6.19K, 1%, 1/16W, 0402; MFG: Yageo; MFG P/N: RC0402FR-076K19L; Status: Released; Package: 0402; Value: 6.19K; Supplier 1: Digi-Key; ComponentLink1URL: http://www.yageo.com/documents/recent/PYu-RC_Group_51_RoHS_L_10.pdf; Supplier Part Number 1: 311-6.19KLRCT-ND
footprint R0402
pins: 1, 2

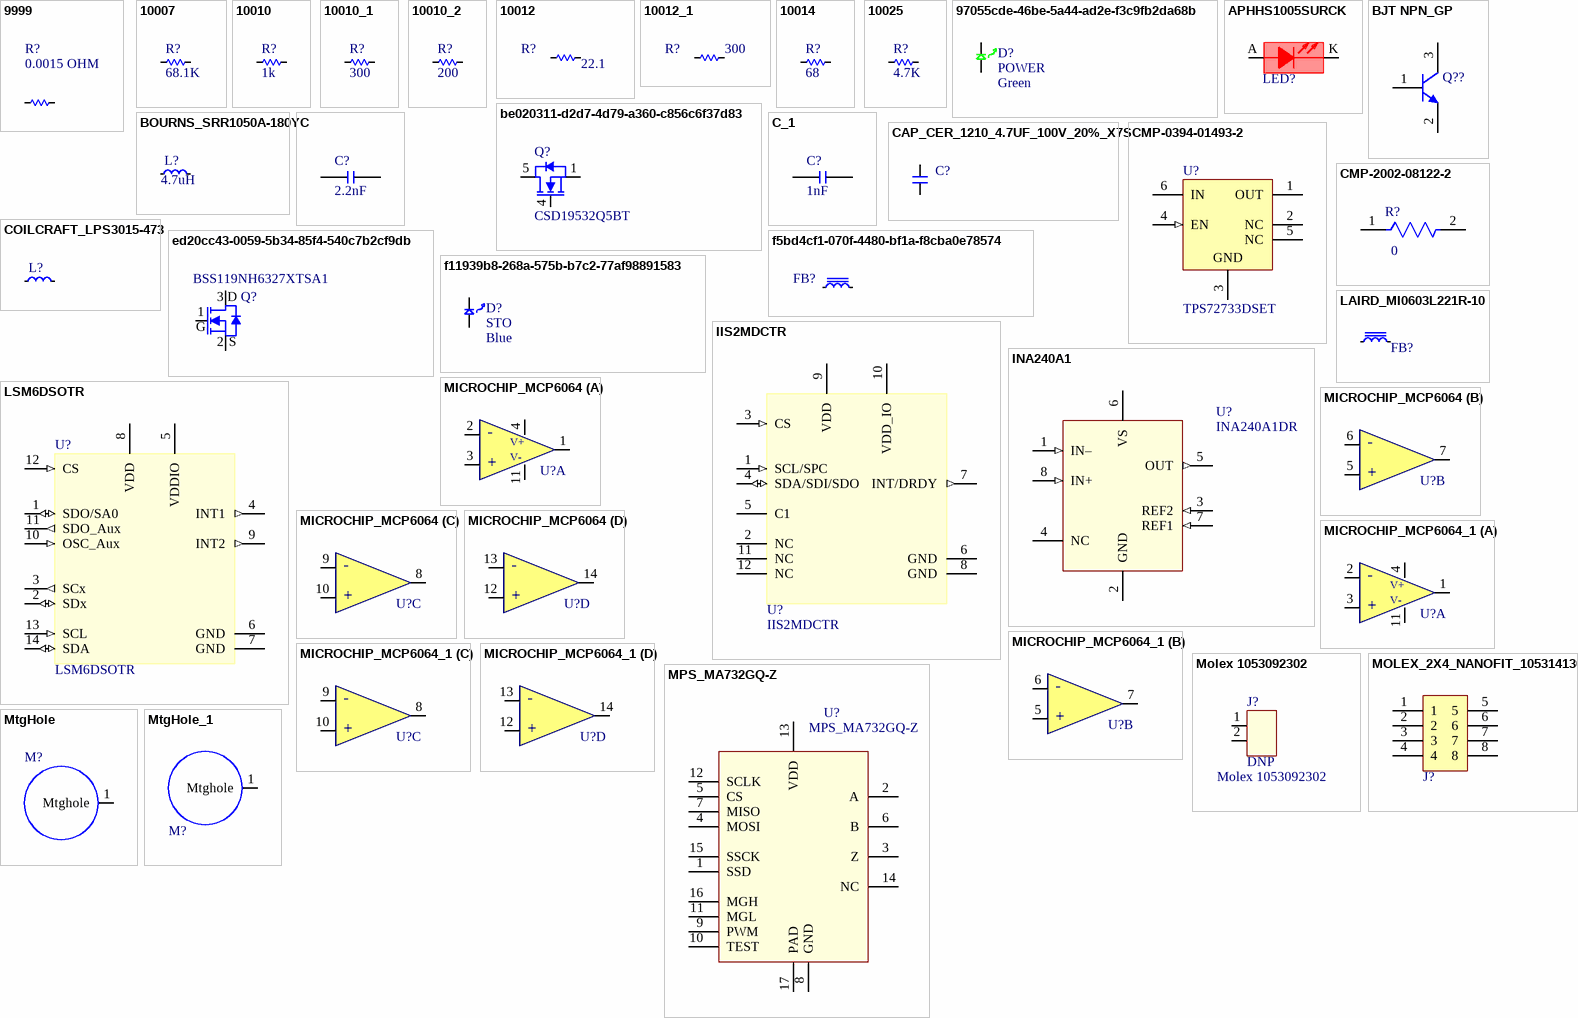
[diagram p3: symbols 9999 to MtgHole_1]

## 9999
designator R?, comment 0.0015 OHM
RES, 0.0015, 1%, 3W, 2512; MFG: TE Connectivity Passive Product; MFG P/N: TLR3A30DR0015FTDG; Status: Released; Package: 2512; Value: 0.0015 OHM; Supplier 1: Digi-Key; ComponentLink1URL: https://www.te.com/commerce/DocumentDelivery/DDEController?Action=srchrtrv&DocNm=1773449-3&DocType=DS&DocLang=English; Supplier Part Number 1: A131795CT-ND
footprint R2512_H0.8MM
footprint R2512
pins: 1, 2

## 10007
designator R?, comment 68.1K
RES, 68.1K, 1%, 1/16W, 0402; MFG: Stackpole Electronics Inc; MFG P/N: RMCF0402FT68K1; Status: Released; Package: 0402; Value: 68.1K; Supplier 1: Digi-Key; ComponentLink1URL: https://www.digikey.com/en/products/detail/stackpole-electronics-inc/RMCF0402FT68K1/1761637; Supplier Part Number 1: RMCF0402FT68K1CT-ND
footprint R0201_H0.26MM
footprint R0402
pins: 1, 2

## 10010
designator R?, comment value 1k  (hidden comment: __Template_Resistor)
RES, 1K, 1%, 1/20W, 0201, AUTOGRADE; MFG: Bourns Inc.; MFG P/N: CR0201AFW-1001GLF; Status: Released; Package: 0201; Supplier 1: Digi-Key; ComponentLink1URL: https://www.bourns.com/docs/product-datasheets/crxxxxa.pdf; Supplier Part Number 1: 118-CR0201AFW-1001GLFCT-ND
footprint R0201_H0.26MM
footprint R0201
pins: 1, 2

## 10010_1
designator R?, comment value 300  (hidden comment: __Template_Resistor)
RES, 300, 1%, 1/20W, 0201, AUTOGRADE; MFG: Panasonic Electronic Components; MFG P/N: ERJ-1GNF3000C; Status: Released; Package: 0201; Supplier 1: Digi-Key; ComponentLink1URL: https://www.digikey.com/en/products/detail/panasonic-electronic-components/ERJ-1GNF3000C/2036050; Supplier Part Number 1: P122911CT-ND
footprint R0201_H0.26MM
footprint R0201
pins: 1, 2

## 10010_2
designator R?, comment 200
RES, 200, 1%, 1/20W, 0201, AUTOGRADE; MFG: Panasonic Electronic Components; MFG P/N: ERJ-1GNF2000C; Status: Released; Package: 0201; Value: 200; Supplier 1: Digi-Key; ComponentLink1URL: https://www.bourns.com/docs/product-datasheets/crxxxxa.pdf; Supplier Part Number 1: P122416CT-ND
footprint R0201_H0.26MM
footprint R0201
pins: 1, 2

## 10012
designator R?, comment value 22.1  (hidden comment: __Template_Resistor)
RES, 22.1, 1%, 1/20W, 0201, AUTOGRADE; MFG: Panasonic Electronic Components; MFG P/N: ERJ-1GNF22R1C; Status: Released; Package: 0201; Supplier 1: Digi-Key; ComponentLink1URL: https://industrial.panasonic.com/cdbs/www-data/pdf/RDA0000/AOA0000C304.pdf; Supplier Part Number 1: P122844CT-ND
footprint R0201_H0.26MM
footprint R0201
pins: 1, 2

## 10012_1
designator R?, comment value 300  (hidden comment: __Template_Resistor)
RES, 300, 1%, 1/20W, 0201, AUTOGRADE; MFG: Panasonic Electronic Components; MFG P/N: ERJ-1GNF3000C; Status: Released; Package: 0201; Supplier 1: Digi-Key; ComponentLink1URL: https://www.digikey.com/en/products/detail/panasonic-electronic-components/ERJ-1GNF3000C/2036050; Supplier Part Number 1: P122911CT-ND
footprint R0201_H0.26MM
footprint R0201
pins: 1, 2

## 10014
designator R?, comment value 68  (hidden comment: __Template_Resistor)
RES, 68, 1%, 1/20W, 0201, AUTOGRADE; MFG: Panasonic Electronic Components; MFG P/N: ERJ-1GNF68R0C; Status: Released; Package: 0201; Supplier 1: Digi-Key; ComponentLink1URL: https://industrial.panasonic.com/cdbs/www-data/pdf/RDA0000/AOA0000C304.pdf; Supplier Part Number 1: P123132CT-ND
footprint R0201_H0.26MM
footprint R0201
pins: 1, 2

## 10025
designator R?, comment value 4.7K  (hidden comment: __Template_Resistor)
RES, 4.7K, 1%, 1/20W, 0201, AUTOGRADE; MFG: Panasonic Electronic Components; MFG P/N: ERJ-1GNF4701C; Status: Released; Package: 0201; Supplier 1: Digi-Key; ComponentLink1URL: https://industrial.panasonic.com/cdbs/www-data/pdf/RDA0000/AOA0000C304.pdf; Supplier Part Number 1: P123031CT-ND
footprint R0201_H0.26MM
footprint R0201
pins: 1, 2

## 97055cde-46be-5a44-ad2e-f3c9fb2da68b
designator D?, comment POWER  value Green
LED, GREEN, 569nm, 30mA, CLEAR, 0603; MFG: Lite-On Inc.; MFG P/N: LTST-C190GKT; Package: 0603 (1608 Metric); ComponentLink1URL: http://media.digikey.com/pdf/Data%20Sheets/Lite-On%20PDFs/LTST-C190GKT.pdf; Status: Released; Supplier 1: Digi-Key; Supplier Part Number 1: 160-1183-1-ND
footprint LEDSC160X80X90L40-GREEN (LED, Side Concave, 2-Leads, Body 1.60x0.80mm)
pins: 1 CATHODE, 2 ANODE

## APHHS1005SURCK
designator LED?  (value not drawn)
LED RED CLEAR CHIP SMD; MFG: Kingbright; Status: Released; MFG P/N: APHHS1005SURCK; Package: 0402; Value: APHHS1005SURCK; Supplier 1: Digi-Key; ComponentLink1URL: http://www.kingbrightusa.com/images/catalog/SPEC/APG0603SYC-TT.pdf; Supplier Part Number 1: 754-1104-1-ND
footprint LED_APHHS1005SURCK (Footprint not found)
pins: A, K

## be020311-d2d7-4d79-a360-c856c6f37d83
designator Q?, comment value CSD19532Q5BT  (hidden comment: TI CSD19532Q5B)
MOSFET N-CH 100V 100A 8SON; MFG: Texas Instruments; Package: 8-PowerTDFN SON5x6; ComponentLink1URL: https://www.digikey.com/en/products/detail/texas-instruments/CSD19532Q5BT/6110536?s=N4IgjCBcpgbFoDGUBmBDANgZwKYBoQB7KAbRACYBOAFgA4AGeAXQIAcAXKEAZXYCcAlgDsA5iAC%2BBWJQQhkkdNnxFSIavUoBmLSBYgOXXoNESCAVgDs9WfMW4CxSGU0Wr1GXoOQe-YWMkgsIw2qJj2Kk4gLrSUsbpsnN5GfqaB9LQhCmHKjmSwtGYaIFIFYNaeiT7G-gRg5Jrw0HKhSg6qYBaaZRAVhr4mAeSMGU222W2RZfQABABq8fqVAKpCAuwA8igAsjhoWACufDipALTkmfz7OapmuuL3QA; Status: Preliminary; MFG P/N: CSD19532Q5BT; Supplier 1: Digi-Key; Supplier Part Number 1: 296-44471-1-ND
footprint TI_SON5X6 (SON, 8-Leads, Body 5.00x6.00mm, Pitch 1.27mm, IPC Medium Density)
pins: 1 S, 4 G, 5 D

## BJT NPN_GP
designator Q??, comment Bipolar NPN 3 Pins Transistor Gummel-Poon Model  (value not drawn)
TRANS NPN 40V 0.2A SOT23-3; MFG: NTE Electronics, Inc; MFG P/N: MMBT3904; Value: MMBT3904; ComponentLink1URL: https://www.digikey.com/en/products/detail/nte-electronics-inc/MMBT3904/11649623; Package: SOT23-3; Status: Preliminary; Supplier 1: Digi-Key; Supplier Part Number 1: 2368-MMBT3904-ND
footprint SOT23-3
pins: 1 B, 2 E, 3 C

## BOURNS_SRR1050A-180Y
designator L?, comment 4.7uH
FIXED IND 4.7UH 3.9A 44MOHM SMD; MFG: Würth Elektronik; MFG P/N: 78438357047; Supplier 1: Digi-Key; Supplier Part Number 1: 732-11742-1-ND; ComponentLink1URL: https://www.bourns.com/docs/Product-Datasheets/SRR1050A.pdf?src-supplier=Digi-Key; Value: 4.7uH
footprint IND_78438357047 (Footprint not found)
pins: 1, 2

## C
designator C?, comment 2.2nF
Multilayer Ceramic Capacitors MLCC - SMD/SMT 0603 2.2nF 100volts X7R 10%; MFG: Vishay / Vitramon; MFG P/N: VJ0603Y222KXBAC31X; Voltage: 100V; ComponentLink1URL: https://www.mouser.com/datasheet/2/427/vj31xrohsautomlcc-1763818.pdf; Supplier 1: Mouser; Supplier Part Number 1: 77-V0603Y222KXBAC31X; Value: 2.2nF
footprint CAP 0603_1608 RF (Chip Capacitor, 2-Leads, Body 1.60x0.80mm, IPC High Density)
footprint C0603
pins: 1, 2

## C_1
designator C?, comment 1nF
Multilayer Ceramic Capacitors MLCC - SMD/SMT 0603 1.0nF 100volts X7R 10%; MFG: Vishay / Vitramon; MFG P/N: VJ0603Y102KXBAC31X; Voltage: 100V; ComponentLink1URL: https://www.mouser.com/datasheet/2/427/vj31xrohsautomlcc-1763818.pdf; Supplier 1: Mouser; Supplier Part Number 1: 77-V0603Y102KXBAC31X; Value: 1nF
footprint CAP 0603_1608 RF (Chip Capacitor, 2-Leads, Body 1.60x0.80mm, IPC High Density)
footprint C0603
pins: 1, 2

## CAP_CER_1210_4.7UF_100V_20%_X7S
designator C?, comment 4.7UF  (value not drawn)
CAP CER 4.7UF 100V X7S 1210; MFG: Taiyo Yuden; MFG P/N: HMK325C7475MM-PE; Supplier 1: Digi-Key; Supplier Part Number 1: 587-5040-1-ND; ComponentLink1URL: https://www.digikey.com/en/products/detail/taiyo-yuden/HMK325C7475MM-PE/6563633; Value: 4.7UF; Voltage: 100V; Package: 1210
footprint C1210 (Chip Capacitor, 2-Leads, Body 3.2x2.5mm, IPC High Density)
pins: 1, 2

## CMP-0394-01493-2
designator U?, comment TPS72733DSET
IC REG LINEAR 3.3V 250MA 6WSON; MFG: Texas Instruments; ComponentLink1URL: http://www.ti.com/; MFG P/N: TPS72733DSET; Supplier 1: Digi-Key; Supplier Part Number 1: 296-27803-1-ND; Value: TPS72733DSET
footprint DES0006A_V (SON, 6-Leads, Body 1.5x1.5mm, Pitch 0.5mm)
footprint 6WSON
pins: 1 OUT (power) "Regulated output voltage pin. A small 1uF ceramic capacitor is needed from this pin to ground to assure stability.", 2 NC "No connection. This pin can be tied to to ground to improve thermal dissipation.", 3 GND (power) "Ground pin", 4 EN (in) "Enable pin. Driving EN over 0.9V turns on the regulator. Driving EN below 0.4V puts the regulator into shutdown mode, thus reducing the operating current to 120nA, nominal.", 5 NC "No connection. This pin can be tied to to ground to improve thermal dissipation.", 6 IN (power) "Input pin. A small capacitor is needed from this pin to ground to assure stability."